# Altium schematic symbol library TPS7A8001DRBR.SchLib: 1 symbol
Pins are listed as number, name and electrical type; pins without a type are passive.

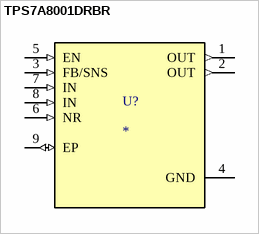
[diagram p0: symbol TPS7A8001DRBR]

## TPS7A8001DRBR
designator U?
Low-Noise, Wide-Bandwidth, High PSRR, / Low-Dropout 1-A Linear Regulator /; Назначение: Регулируемый стабилизатор с низким падением напряжения положительной полярности, 1 А; Потрбление, Вт: 1 (max); Наименование: TPS7A80; ComponentLink1Description: New link; ComponentLink1URL: https://static.chipdip.ru/lib/900/DOC059900040.pdf
footprint VSON-8
pins: 1 OUT (out), 2 OUT (out), 3 FB/SNS (in), 4 GND (power), 5 EN (in), 6 NR (in), 7 IN (in), 8 IN (in), 9 EP (io)